# Altium footprint library PJ031D.PcbLib: 1 footprints
Each footprint in its own frame and in the unit in brackets; x right, y up, seen from the top. Pads: shape width x height; smd on the part's side, far side on the other; paste and mask are expansions set on the pad; w line width, h text height; cw(c..) or ccw(c..) is an arc to the next point about the centre after c.
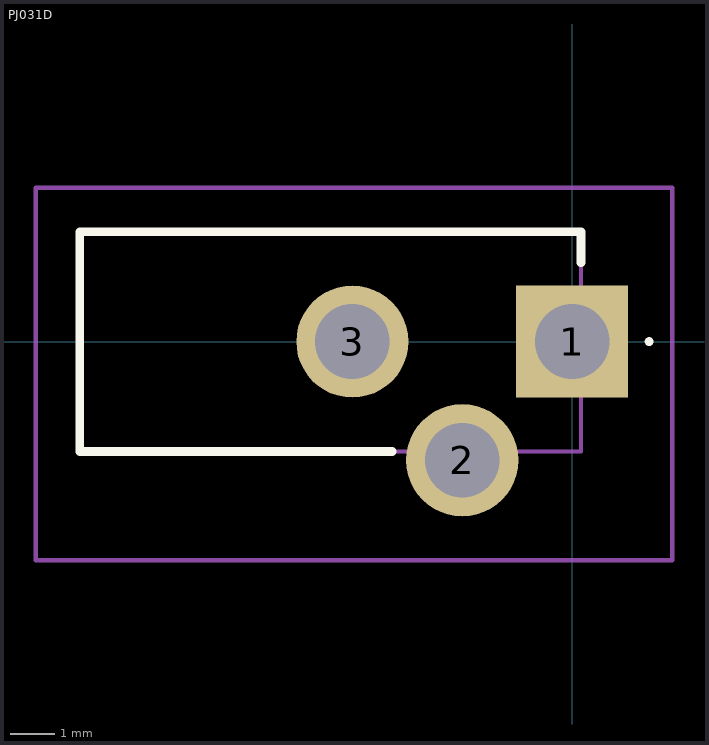
[diagram p0: the footprint, top view; thin cyan lines are the x and y axes]

## PJ031D [mm]
pads (3):
  rect 2.55x2.55 hole 1.7: 1(0,0)
  round 2.55 hole 1.7: 2(-2.5,-2.7) 3(-5,0)
Top Overlay:
  lines w0.1: 1.7,0 cw(c1.75,0) 1.8,0 ; 1.7,0 1.7,0 ; 1.7,0 ccw(c1.75,0) 1.8,0 ; 1.8,0 1.8,0
  lines w0.2: -4.1,-2.5 -11.2,-2.5 -11.2,2.5 0.2,2.5 0.2,1.8
Mechanical 15:
  lines w0.1: -11.2,-2.5 0.2,-2.5 0.2,2.5 -11.2,2.5 -11.2,-2.5
Mechanical 20:
  lines w0.1: -12.2,-4.975 2.275,-4.975 2.275,3.5 -12.2,3.5 -12.2,-4.975
3D body "PJ-031D.stp": height 5.8, standoff -4.65, extent -10,-3.376 10,3.376